# Altium schematic symbol library HYCW02-SATA07-250B.SchLib: 1 symbol
Pins are listed as number, name and electrical type; pins without a type are passive.

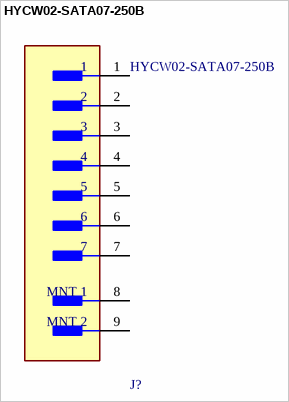
[diagram p0: symbol HYCW02-SATA07-250B]

## HYCW02-SATA07-250B
designator J?
CONN HEADER 7POS HOR; Pitch: 1.27mm; Number of Circuits: 7; Number of Ports: 1; Gender: Male; Connector Type: SATA; Number of Contacts: 7; Length: FIXME; Mount: Surface Mount; Color: Black; Orientation: FIXME; Depth: FIXME; Number of Terminals/Pins: 7; Number of Positions: 7; Termination: Solder; Number of Rows: 1; LCSC Part #: C2926811
footprint HYCW02-SATA07-250B
pins: 1, 2, 3, 4, 5, 6, 7, 8 MNT 1, 9 MNT 2